# Altium footprint library Card_reader.PcbLib: 19 footprints (part 2 of 2)
Each footprint in its own frame and in the unit in brackets; x right, y up, seen from the top. Pads: shape width x height; smd on the part's side, far side on the other; paste and mask are expansions set on the pad; w line width, h text height; cw(c..) or ccw(c..) is an arc to the next point about the centre after c.
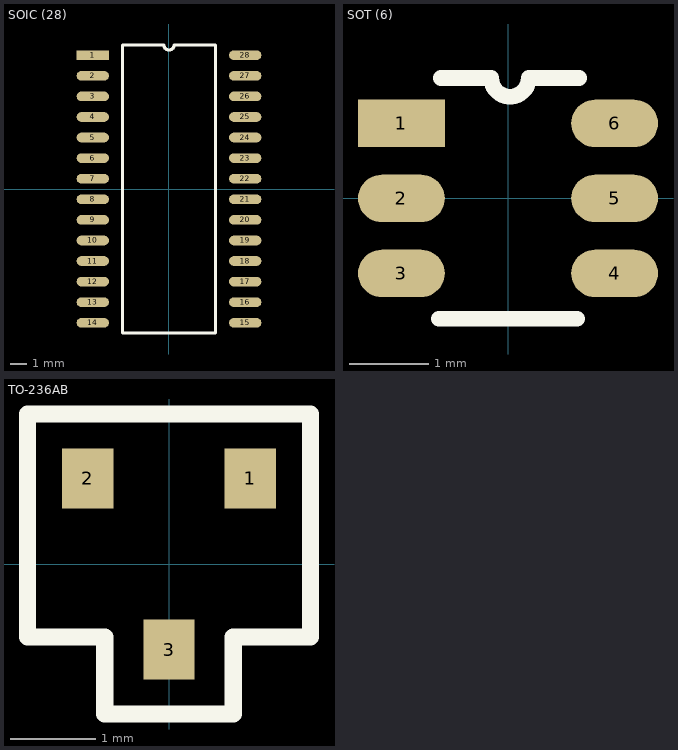
[diagram p1: the footprints below, top view; thin cyan lines are the x and y axes]

## SOIC (28) [mm]
pads (28):
  rect 2x0.6 smd: 1(-4.7,8.255)
  oval 2x0.6 smd: 2(-4.7,6.985) 3(-4.7,5.715) 4(-4.7,4.445) 5(-4.7,3.175) 6(-4.7,1.905) 7(-4.7,0.635) 8(-4.7,-0.635) 9(-4.7,-1.905) 10(-4.7,-3.175) 11(-4.7,-4.445) 12(-4.7,-5.715) 13(-4.7,-6.985) 14(-4.7,-8.255) 15(4.7,-8.255) 16(4.7,-6.985) 17(4.7,-5.715) 18(4.7,-4.445) 19(4.7,-3.175) 20(4.7,-1.905) 21(4.7,-0.635) 22(4.7,0.635) 23(4.7,1.905) 24(4.7,3.175) 25(4.7,4.445) 26(4.7,5.715) 27(4.7,6.985) 28(4.7,8.255)
Top Overlay:
  lines w0.2: -2.865,-8.89 2.865,-8.89 2.865,8.89 0.318,8.89 cw(c0,8.89) -0.318,8.89 -2.865,8.89 -2.865,-8.89
3D body: height 2.65, standoff 0, extent -5.175,-8.95 5.125,8.95

## SOT (6) [mm]
pads (6):
  rect 1.1x0.6 smd: 1(-1.35,0.95)
  oval 1.1x0.6 smd: 2(-1.35,0) 3(-1.35,-0.95) 4(1.35,-0.95) 5(1.35,0) 6(1.35,0.95)
Top Overlay:
  lines w0.2: -0.875,-1.525 0.875,-1.525 ; -0.85,1.525 -0.225,1.525 ; -0.212,1.525 ccw(c0.025,1.525) 0.263,1.525 ; 0.275,1.525 0.9,1.525
3D body: height 1.25, standoff 0.14, extent -1.422,-1.46 1.422,1.461

## TO-236AB [mm]
pads (3):
  rect 0.6x0.7 smd: 1(0.95,1) 2(-0.95,1) 3(0,-1)
Top Overlay:
  lines w0.2: -1.65,-0.85 -1.65,1.75 1.65,1.75 1.65,-0.85 0.75,-0.85 0.75,-1.75 -0.75,-1.75 -0.75,-0.85 -1.65,-0.85
3D body: height 1.1, standoff 0, extent -1.45,-1.275 1.55,1.325